# EAGLE library part FEMALE_1X20 (library be_con_jump)
drawn: Mario Blunk / Blunk electronic
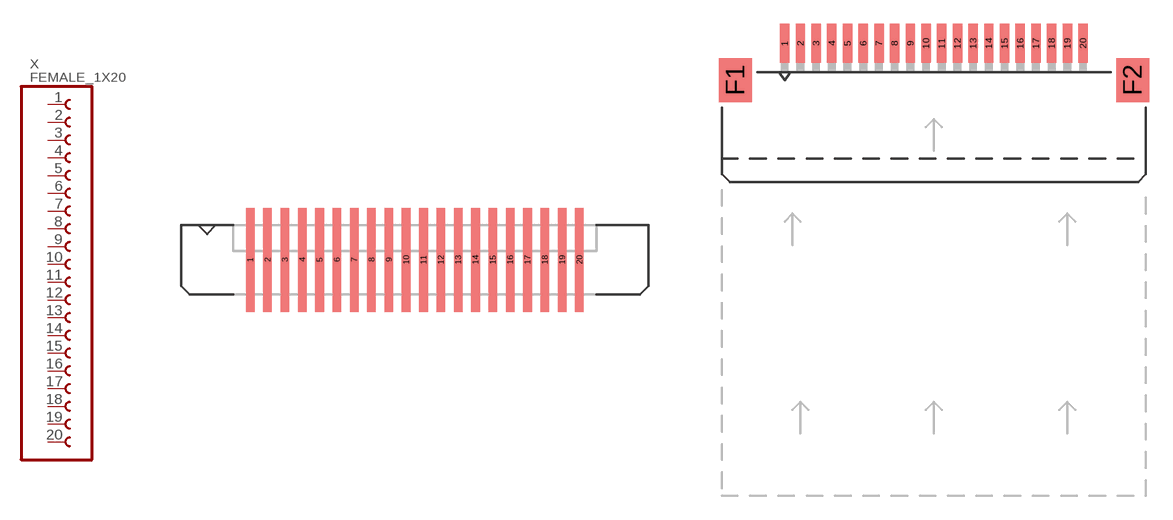
[diagram p17: symbol with the pads of S_FEMALE_1X20_VERTICAL; footprints S_FEMALE_1X20_VERTICAL, S_FEMALE_1X20_HORIZONTAL]

Designator prefix X

## FEMALE_1X20-S-VERTICAL (BOM: YES; COMMISSIONED: 2014-03-19; PART_CODE_BEL: X_PAC_S_FEMALE_1x20_VERTICAL)  [S_FEMALE_1X20_VERTICAL]
1  1  pas
2  2  pas
3  3  pas
4  4  pas
5  5  pas
6  6  pas
7  7  pas
8  8  pas
9  9  pas
10  10  pas
11  11  pas
12  12  pas
13  13  pas
14  14  pas
15  15  pas
16  16  pas
17  17  pas
18  18  pas
19  19  pas
20  20  pas

## FEMALE_1X20-S-HORIZONTAL (BOM: YES; COMMISSIONED: 2014-04-08; PART_CODE_BEL: X_PAC_S_FEMALE_1x20_HORIZONTAL)  [S_FEMALE_1X20_HORIZONTAL]
Pads as for S_FEMALE_1X20_VERTICAL

## Footprint S_FEMALE_1X20_VERTICAL (pad centres in mm)
male 1x20 drawn: Mario Blunk / Blunk electronic date: 2014-03-19
smd 0.5 x 6: 1 -9.5,0; 2 -8.5,0; 3 -7.5,0; 4 -6.5,0; 5 -5.5,0; 6 -4.5,0; 7 -3.5,0; 8 -2.5,0; 9 -1.5,0; 10 -0.5,0; 11 0.5,0; 12 1.5,0; 13 2.5,0; 14 3.5,0; 15 4.5,0; 16 5.5,0; 17 6.5,0; 18 7.5,0; 19 8.5,0; 20 9.5,0

## Footprint S_FEMALE_1X20_HORIZONTAL (pad centres in mm)
drawn: Mario Blunk / Blunk electronic date: 2014-04-08
smd 0.6 x 2.5: 1 -9.5,5.35; 2 -8.5,5.35; 3 -7.5,5.35; 4 -6.5,5.35; 5 -5.5,5.35; 6 -4.5,5.35; 7 -3.5,5.35; 8 -2.5,5.35; 9 -1.5,5.35; 10 -0.5,5.35; 11 0.5,5.35; 12 1.5,5.35; 13 2.5,5.35; 14 3.5,5.35; 15 4.5,5.35; 16 5.5,5.35; 17 6.5,5.35; 18 7.5,5.35; 19 8.5,5.35; 20 9.5,5.35
smd 2.1 x 2.8: F1 -12.65,3; F2 12.65,3